# Altium schematic symbol library STM32G4A1REY6TR.SchLib: 1 symbol
Pins are listed as number, name and electrical type; pins without a type are passive.

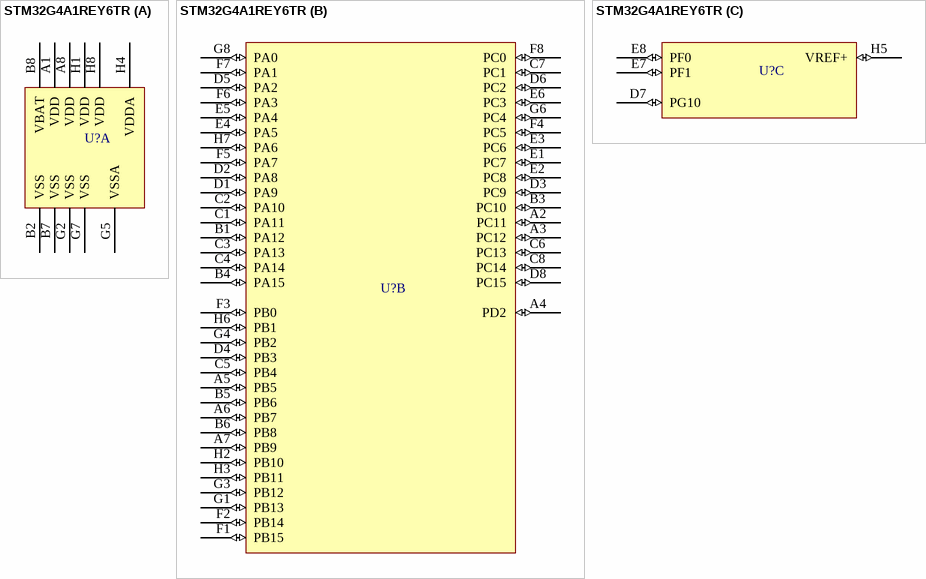
[diagram p0: symbol STM32G4A1REY6TR]

## STM32G4A1REY6TR
designator U?  (value not drawn)
Mainstream Arm Cortex-M4 MCU 170 MHz with 512 Kbytes of Flash memory, Math Accelerator, High Analog level integration, Crypto
part A pins: A1 VDD (power), A8 VDD (power), B2 VSS (power), B7 VSS (power), B8 VBAT (power), G2 VSS (power), G5 VSSA (power), G7 VSS (power), H1 VDD (power), H4 VDDA (power), H8 VDD (power)
part B pins: A2 PC11 (io), A3 PC12 (io), A4 PD2 (io), A5 PB5 (io), A6 PB7 (io), A7 PB9 (io), B1 PA12 (io), B3 PC10 (io), B4 PA15 (io), B5 PB6 (io), B6 PB8 (io), C1 PA11 (io), C2 PA10 (io), C3 PA13 (io), C4 PA14 (io), C5 PB4 (io), C6 PC13 (io), C7 PC1 (io), C8 PC14 (io), D1 PA9 (io), D2 PA8 (io), D3 PC9 (io), D4 PB3 (io), D5 PA2 (io), D6 PC2 (io), D8 PC15 (io), E1 PC7 (io), E2 PC8 (io), E3 PC6 (io), E4 PA5 (io), E5 PA4 (io), E6 PC3 (io), F1 PB15 (io), F2 PB14 (io), F3 PB0 (io), F4 PC5 (io), F5 PA7 (io), F6 PA3 (io), F7 PA1 (io), F8 PC0 (io), G1 PB13 (io), G3 PB12 (io), G4 PB2 (io), G6 PC4 (io), G8 PA0 (io), H2 PB10 (io), H3 PB11 (io), H6 PB1 (io), H7 PA6 (io)
part C pins: D7 PG10 (io), E7 PF1 (io), E8 PF0 (io), H5 VREF+ (io)